# Altium schematic symbol library IMU.SchLib: 6 symbols
Pins are listed as number, name and electrical type; pins without a type are passive.

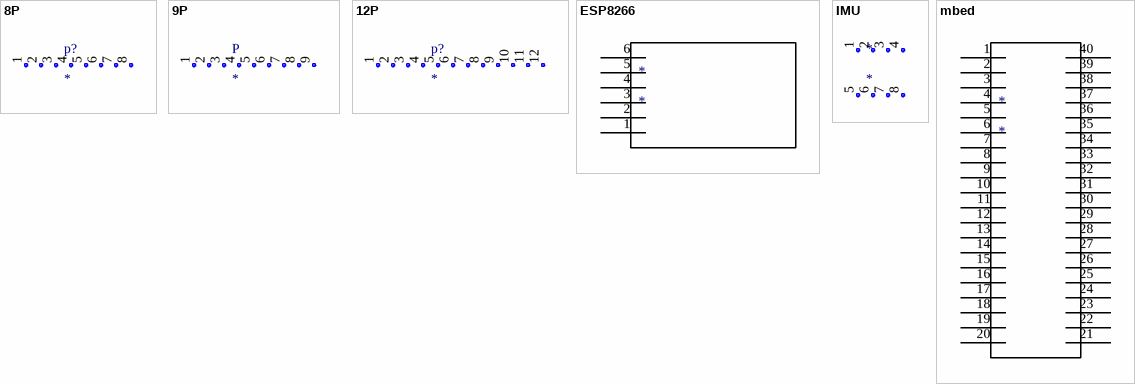
[diagram p0: symbols 8P to mbed]

## 8P
designator p?
footprint 8P
pins: 1, 2, 3, 4, 5, 6, 7, 8

## 9P
designator P
footprint 9p
pins: 1, 2, 3, 4, 5, 6, 7, 8, 9

## 12P
designator p?
footprint 12P
pins: 1, 2, 3, 4, 5, 6, 7, 8, 9, 10, 11, 12

## ESP8266
designator *
footprint ESP8266
pins: 1, 2, 3, 4, 5, 6

## IMU
designator *
footprint MPU9250
pins: 1, 2, 3, 4, 5, 6, 7, 8

## mbed
designator *
footprint Mbed
pins: 1, 2, 3, 4, 5, 6, 7, 8, 9, 10, 11, 12, 13, 14, 15, 16, 17, 18, 19, 20, 21, 22, 23, 24, 25, 26, 27, 28, 29, 30, 31, 32, 33, 34, 35, 36, 37, 38, 39, 40